# EAGLE library part FT4232HX (library tm_StrawberryLinux)
FT4232HX 4ch Highspeed USB Serial Converter Strawberry Linux 2016/03/03 shiu
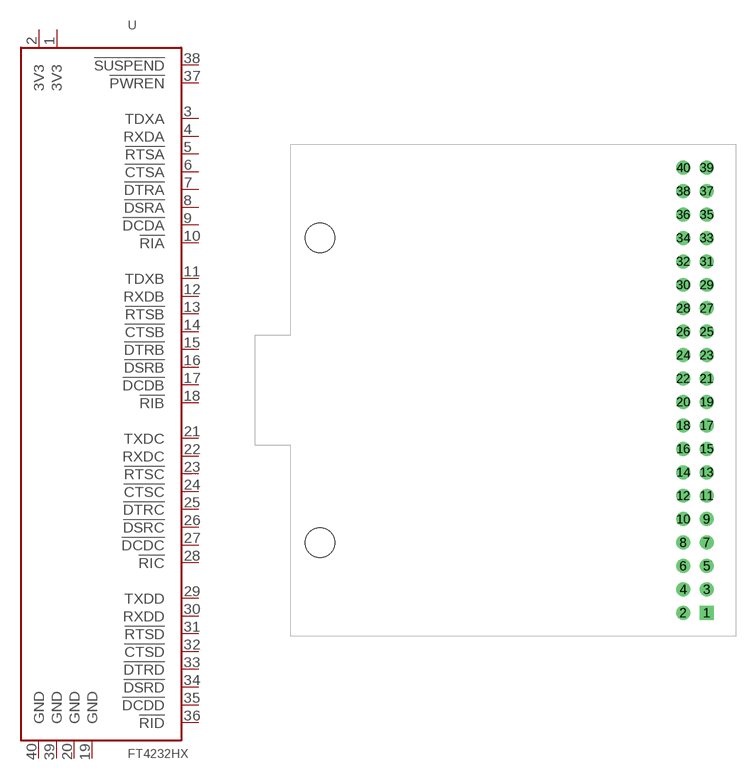
[diagram p0: symbol with the pads of FT4232HX; footprint FT4232HX]

Designator prefix -

## FT4232HX  [FT4232HX]
1  3V3  pwr
2  3V3  pwr
3  TDXA
4  RXDA
5  !RTSA
6  !CTSA
7  !DTRA
8  !DSRA
9  !DCDA
10  !RIA
11  TDXB
12  RXDB
13  !RTSB
14  !CTSB
15  !DTRB
16  !DSRB
17  !DCDB
18  !RIB
19  GND  pwr
20  GND  pwr
21  TXDC
22  RXDC
23  !RTSC
24  !CTSC
25  !DTRC
26  !DSRC
27  !DCDC
28  !RIC
29  TXDD
30  RXDD
31  !RTSD
32  !CTSD
33  !DTRD
34  !DSRD
35  !DCDD
36  !RID
37  !PWREN
38  !SUSPEND
39  GND  pwr
40  GND  pwr

## Footprint FT4232HX (pad centres in mm)
Strawberry Linux FT4232HX Mopdule 2016/03/03 shiu
drill 1 square: 1 20.955,-24.13
drill 1: 2 18.415,-24.13; 3 20.955,-21.59; 4 18.415,-21.59; 5 20.955,-19.05; 6 18.415,-19.05; 7 20.955,-16.51; 8 18.415,-16.51; 9 20.955,-13.97; 10 18.415,-13.97; 11 20.955,-11.43; 12 18.415,-11.43; 13 20.955,-8.89; 14 18.415,-8.89; 15 20.955,-6.35; 16 18.415,-6.35; 17 20.955,-3.81; 18 18.415,-3.81; 19 20.955,-1.27; 20 18.415,-1.27; 21 20.955,1.27; 22 18.415,1.27; 23 20.955,3.81; 24 18.415,3.81; 25 20.955,6.35; 26 18.415,6.35; 27 20.955,8.89; 28 18.415,8.89; 29 20.955,11.43; 30 18.415,11.43; 31 20.955,13.97; 32 18.415,13.97; 33 20.955,16.51; 34 18.415,16.51; 35 20.955,19.05; 36 18.415,19.05; 37 20.955,21.59; 38 18.415,21.59; 39 20.955,24.13; 40 18.415,24.13
hole 3.2 at -20.955,16.5
hole 3.2 at -20.955,-16.5